# Altium schematic symbol library Diodes.SchLib: 12 symbols
Pins are listed as number, name and electrical type; pins without a type are passive.

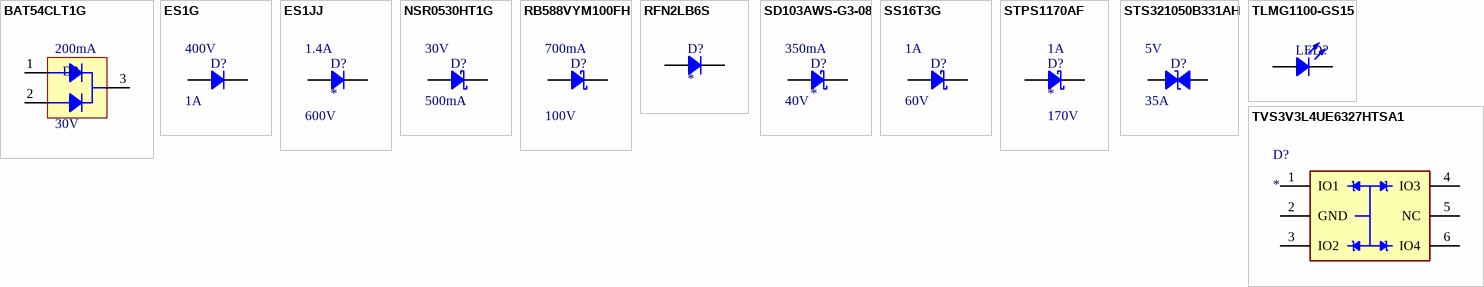
[diagram p0: symbols BAT54CLT1G to TVS3V3L4UE6327HTSA1]

## BAT54CLT1G
designator D?  Reverse Voltage: 30V  Average Current: 200mA  (hidden comment: *)
Diode Array 1 Pair Common Cathode 30 V 200mA (DC) Surface Mount TO-236-3, SC-59, SOT-23-3; Type: Schottky; Configuration: Common Cathode; Package: SOT-23-3
footprint SOT-23-3
pins: 1, 2, 3

## ES1G
designator D?  Average Current: 1A  Reverse Voltage: 400V  (hidden comment: *)
Diode 400 V 1A Surface Mount DO-214AC (SMA); Type: Fast Recovery; Package: DO-214AC
footprint DO-214AC (SMA) (AKA SMA)
pins: 1 Cathode, 2 Anode

## ES1JJ
designator D?  Reverse Voltage: 600V  Average Current: 1.4A
Diode 600 V 1.4A Surface Mount SMA; Type: Fast Recovery; Package: DO-214AC
footprint DO-214AC (AKA SMA)
pins: 1 Cathode, 2 Anode

## NSR0530HT1G
designator D?  Average Current: 500mA  Reverse Voltage: 30V  (hidden comment: *)
DIODE SCHOTTKY 30V 500MA SOD323; Package: SOD-323; Type: Schottky
pins: 1 Cathode, 2 Anode

## RB588VYM100FH
designator D?  Reverse Voltage: 100V  Average Current: 700mA  (hidden comment: *)
Diode 100 V 700mA Surface Mount TUMD2M (SOD-323HE); Type: Schottky; Package: SOD-323HE
footprint SOD-323HE
pins: 1 Cathode, 2 Anode

## RFN2LB6S
designator D?
Diode 600 V 2A Surface Mount SMBP; Reverse Voltage: 600V; Type: Fast Recovery; Average Current: 2A; Package: DO-214AA
footprint DO-214AA (AKA SMB)
pins: 1 Cathode, 2 Anode

## SD103AWS-G3-08
designator D?  Reverse Voltage: 40V  Average Current: 350mA
Diode 40 V 350mA Surface Mount SOD-323; Type: Schottky; Package: SOD-323
footprint SOD-323
pins: 1 Cathode, 2 Anode

## SS16T3G
designator D?  Reverse Voltage: 60V  Average Current: 1A  (hidden comment: *)
Diode 60 V 1A Surface Mount SMA; Type: Schottky; Package: DO-214AC
footprint DO-214AC (SMA) (AKA SMA)
pins: 1 Cathode, 2 Anode

## STPS1170AF
designator D?  Reverse Voltage: 170V  Average Current: 1A
Diode 170 V 1A Surface Mount SMAflat; Type: Schottky; Package: SMA-Flat
footprint DO-214AC (AKA SMA)
pins: 1 Cathode, 2 Anode

## STS321050B331AH
designator D?  Peak Current: 35A  VWM: 5V  (hidden comment: *)
14V Clamp 35A (8/20µs) Ipp Tvs Diode Surface Mount SOD-323; Package: SOD-323; Reverse Voltage: 14V; Type: TVS
footprint SOD-323
pins: 1, 2

## TLMG1100-GS15
designator LED?  (value not drawn)
Green 570nm LED Indication - Discrete 2.1V 0603 (1608 Metric); Average Current: 20mA; Reverse Voltage: 12V; Package: 0603; Type: LED
footprint TLMG1100-GS15 (0603 Footprint with Cathode Marking for LEDs)
pins: 1 Cathode, 2 Anode

## TVS3V3L4UE6327HTSA1
designator D?
7.7V (Typ) Clamp 20A (8/20µs) Ipp Tvs Diode Surface Mount PG-SC74-6; VWM: 3.3V; Package: SOT-23-6; Reverse Voltage: 7.7 V; Type: TVS
footprint SOT-23-6 (generic sot-23-6 footprint)
pins: 1 IO1, 2 GND, 3 IO2, 4 IO3, 5 NC, 6 IO4